# Altium footprint library RESC6432X55N.PcbLib: 1 footprints
Each footprint in its own frame and in the unit in brackets; x right, y up, seen from the top. Pads: shape width x height; smd on the part's side, far side on the other; paste and mask are expansions set on the pad; w line width, h text height; cw(c..) or ccw(c..) is an arc to the next point about the centre after c.
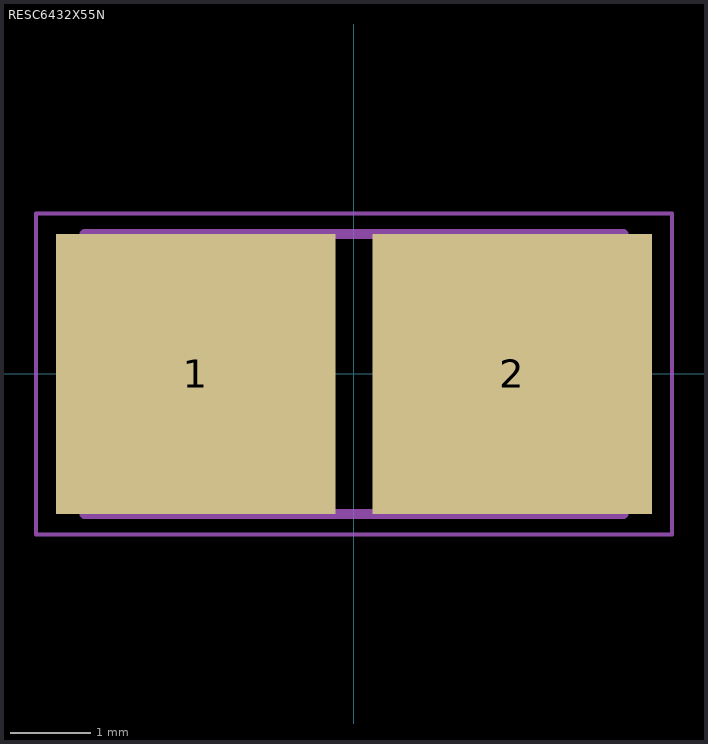
[diagram p0: the footprint, top view; thin cyan lines are the x and y axes]

## RESC6432X55N [mm]
pads (2):
  rect 3.45x3.46 smd: 1(-1.956,0) 2(1.956,0)
Mechanical 13:
  lines w0.127: -3.33,-1.73 3.33,-1.73 3.33,1.73 -3.33,1.73 -3.33,-1.73
Mechanical 15:
  lines w0.05: -3.931,-1.981 3.931,-1.981 3.931,1.981 -3.931,1.981 -3.931,-1.981